# Altium integrated library Analog Devices Data Converters Analog-to-Digital Converters.IntLib: 2404 symbols (part 206 of 346)
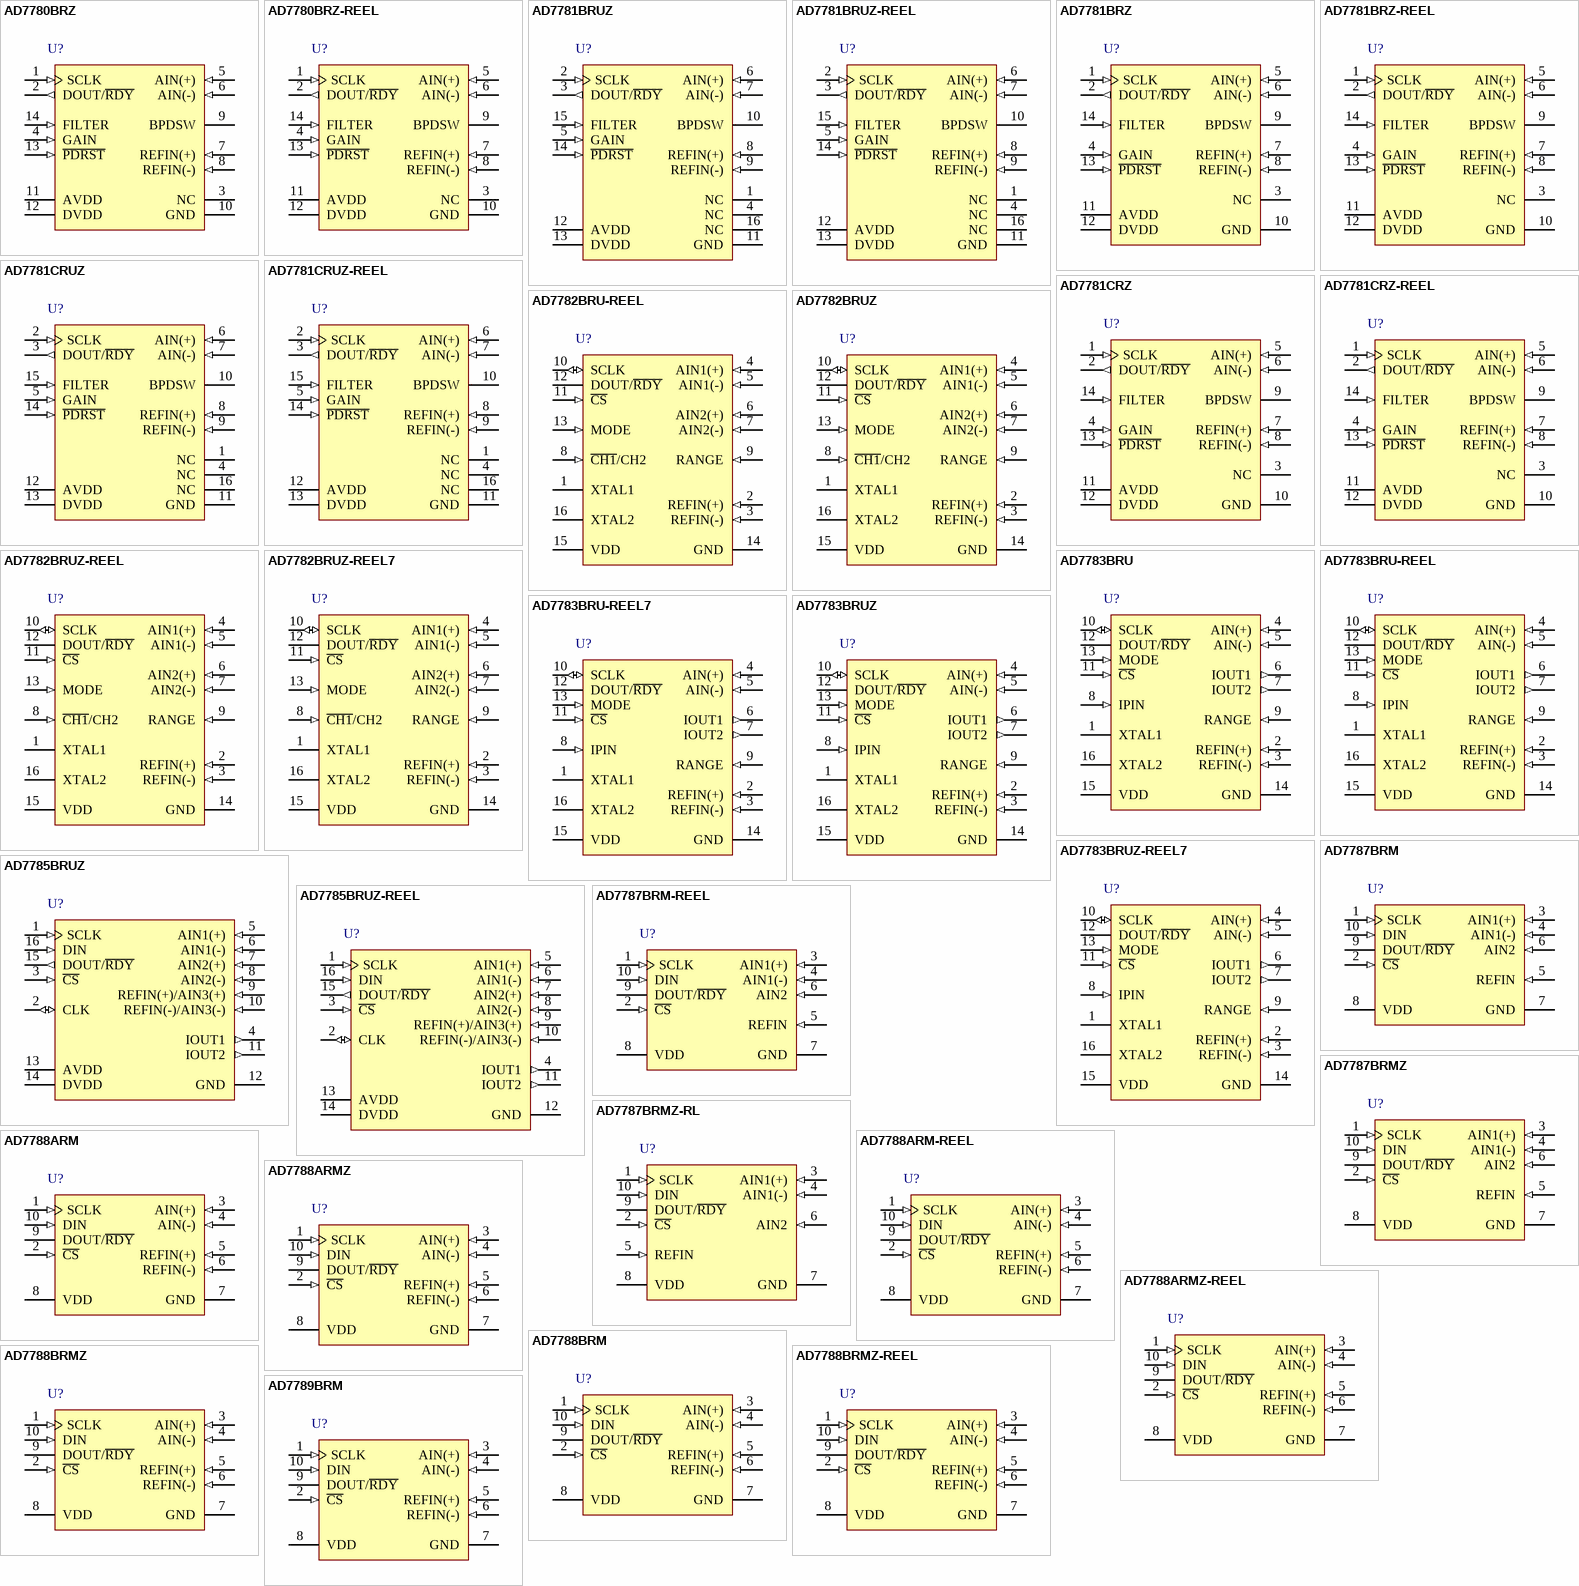
[diagram p266: symbols AD7780BRZ to AD7789BRM]

## AD7788ARMZ
designator U?
Single 16-Bit Low Power Sigma-Delta Analog-to-Digital Converter with Serial, SPI Interface, 16.6SPS, -40 to +85 degC, RM-10, Pb-Free, Tube; Generic Part Number: AD7788; Manufacturer: Analog Devices; PartNumber: AD7788ARMZ; Resolution (Bits): 16; Channels: 1; Throughput Rate (SPS): 16.6; Interface: Ser, SPI; DatasheetVersion: Rev.B; PackageVersion: May-2005; PackageReference: RM-10; PackageDescription: 10-Lead Mini Small Outline Package [MSOP]; Supplier 1: Digi-Key; Supplier Part Number 1: AD7788ARMZ-ND; Supplier 2: Newark; Supplier Part Number 2: 90W0416; Supplier 3: Newark; Supplier Part Number 3: 59K5448; Supplier 4: Mouser; Supplier Part Number 4: 584-AD7788ARMZ; RoHS: Y; Packing: Tube; Mounting Technology: Surface Mount; ComponentLink1Description: Manufacturer URL; ComponentLink1URL: http://www.analog.com/en/index.html; ComponentLink2Description: Datasheet; ComponentLink2URL: http://www.analog.com/static/imported-files/data_sheets/AD7788_7789.pdf; ComponentLink3Description: Package Specification; ComponentLink3URL: http://www.analog.com/static/imported-files/packages/PKG_PDF/MSOP%28RM%29/RM_10.pdf; ComponentLink4Description: Product URL; ComponentLink4URL: http://www.analog.com/en/analog-to-digital-converters/ad-converters/ad7788/products/product.html
footprint RM-10_N (TSSOP, 10-Leads, Body 3x3mm, Pitch 0.5mm, IPC Medium Density)
footprint RM-10_L (TSSOP, 10-Leads, Body 3x3mm, Pitch 0.5mm, IPC High Density)
footprint RM-10_M (TSSOP, 10-Leads, Body 3x3mm, Pitch 0.5mm, IPC Low Density)
pins: 1 SCLK (in) "Serial Clock Input for Data Transfers to and from the ADC. The SCLK has a Schmitt-triggered input, making the interface suitable for opto-isolated applications. The serial clock can be continuous, with all data transmitted (See Datasheet)", 2 ~{CS} (in) "Chip Select Input. This is an active low logic input used to select the ADC. C\S\can be used to select the ADC in systems with more than one device on the serial bus or as a frame synchronization signal in communicating with (See Datasheet)", 3 AIN(+) (in) "Analog Input. AIN(+) is the positive terminal of the fully differential analog input.", 4 AIN(-) (in) "Analog Input. AIN(-) is the negative terminal of the fully differential analog input.", 5 REFIN(+) (in) "Positive Reference Input. REFIN(+) can lie anywhere between VDD and GND + 0.1 V. The nominal reference voltage (REFIN(+) - REFIN(-)) is 2.5 V, but the part functions with a reference from 0.1 V to VDD.", 6 REFIN(-) (in) "Negative Reference Input. This reference input can lie anywhere between GND and VDD - 0.1 V.", 7 GND (power) "Ground Reference Point.", 8 VDD (power) "Supply Voltage. 3 V or 5 V nominal.", 9 DOUT/~{RDY} (hiz) "The DOUT/R\D\Y\ falling edge can be used as an interrupt to a processor, indicating that valid data is available. With an external serial clock, the data can be read using the DOUT/R\D\Y\ pin. With C\S\ low, the data/control (See Datasheet)", 10 DIN (in) "Serial Data Input to the Input Shift Register on the ADC. Data in this shift register is transferred to the control registers within the ADC; the register selection bits of the communications register identify the (See Datasheet)"

## AD7788ARMZ-REEL
designator U?
Single 16-Bit Low Power Sigma-Delta Analog-to-Digital Converter with Serial, SPI Interface, 16.6SPS, -40 to +85 degC, RM-10, Pb-Free, Reel; Generic Part Number: AD7788; Manufacturer: Analog Devices; PartNumber: AD7788ARMZ-REEL; Resolution (Bits): 16; Channels: 1; Throughput Rate (SPS): 16.6; Interface: Ser, SPI; DatasheetVersion: Rev.B; PackageVersion: May-2005; PackageReference: RM-10; PackageDescription: 10-Lead Mini Small Outline Package [MSOP]; Supplier 1: Digi-Key; Supplier Part Number 1: AD7788ARMZ-REELTR-ND; Supplier 2: Digi-Key; Supplier Part Number 2: AD7788ARMZ-REELCT-ND; Supplier 3: Digi-Key; Supplier Part Number 3: AD7788ARMZ-REELDKR-ND; Supplier 4: Mouser; Supplier Part Number 4: 584-AD7788ARMZ-R; RoHS: Y; Packing: Reel; Mounting Technology: Surface Mount; ComponentLink1Description: Manufacturer URL; ComponentLink1URL: http://www.analog.com/en/index.html; ComponentLink2Description: Datasheet; ComponentLink2URL: http://www.analog.com/static/imported-files/data_sheets/AD7788_7789.pdf; ComponentLink3Description: Package Specification; ComponentLink3URL: http://www.analog.com/static/imported-files/packages/PKG_PDF/MSOP%28RM%29/RM_10.pdf; ComponentLink4Description: Product URL; ComponentLink4URL: http://www.analog.com/en/analog-to-digital-converters/ad-converters/ad7788/products/product.html
footprint RM-10_N (TSSOP, 10-Leads, Body 3x3mm, Pitch 0.5mm, IPC Medium Density)
footprint RM-10_L (TSSOP, 10-Leads, Body 3x3mm, Pitch 0.5mm, IPC High Density)
footprint RM-10_M (TSSOP, 10-Leads, Body 3x3mm, Pitch 0.5mm, IPC Low Density)
pins: 1 SCLK (in) "Serial Clock Input for Data Transfers to and from the ADC. The SCLK has a Schmitt-triggered input, making the interface suitable for opto-isolated applications. The serial clock can be continuous, with all data transmitted (See Datasheet)", 2 ~{CS} (in) "Chip Select Input. This is an active low logic input used to select the ADC. C\S\can be used to select the ADC in systems with more than one device on the serial bus or as a frame synchronization signal in communicating with (See Datasheet)", 3 AIN(+) (in) "Analog Input. AIN(+) is the positive terminal of the fully differential analog input.", 4 AIN(-) (in) "Analog Input. AIN(-) is the negative terminal of the fully differential analog input.", 5 REFIN(+) (in) "Positive Reference Input. REFIN(+) can lie anywhere between VDD and GND + 0.1 V. The nominal reference voltage (REFIN(+) - REFIN(-)) is 2.5 V, but the part functions with a reference from 0.1 V to VDD.", 6 REFIN(-) (in) "Negative Reference Input. This reference input can lie anywhere between GND and VDD - 0.1 V.", 7 GND (power) "Ground Reference Point.", 8 VDD (power) "Supply Voltage. 3 V or 5 V nominal.", 9 DOUT/~{RDY} (hiz) "The DOUT/R\D\Y\ falling edge can be used as an interrupt to a processor, indicating that valid data is available. With an external serial clock, the data can be read using the DOUT/R\D\Y\ pin. With C\S\ low, the data/control (See Datasheet)", 10 DIN (in) "Serial Data Input to the Input Shift Register on the ADC. Data in this shift register is transferred to the control registers within the ADC; the register selection bits of the communications register identify the (See Datasheet)"

## AD7788BRM
designator U?
Single 16-Bit Low Power Sigma-Delta Analog-to-Digital Converter with Serial, SPI Interface, 16.6SPS, -40 to +105 degC, RM-10, Tube; Generic Part Number: AD7788; Manufacturer: Analog Devices; PartNumber: AD7788BRM; Resolution (Bits): 16; Channels: 1; Throughput Rate (SPS): 16.6; Interface: Ser, SPI; DatasheetVersion: Rev.B; PackageVersion: May-2005; PackageReference: RM-10; PackageDescription: 10-Lead Mini Small Outline Package [MSOP]; Supplier 1: Digi-Key; Supplier Part Number 1: AD7788BRM-ND; Supplier 2: Mouser; Supplier Part Number 2: 584-AD7788BRM; RoHS: N; Packing: Tube; Mounting Technology: Surface Mount; ComponentLink1Description: Manufacturer URL; ComponentLink1URL: http://www.analog.com/en/index.html; ComponentLink2Description: Datasheet; ComponentLink2URL: http://www.analog.com/static/imported-files/data_sheets/AD7788_7789.pdf; ComponentLink3Description: Package Specification; ComponentLink3URL: http://www.analog.com/static/imported-files/packages/PKG_PDF/MSOP%28RM%29/RM_10.pdf; ComponentLink4Description: Product URL; ComponentLink4URL: http://www.analog.com/en/analog-to-digital-converters/ad-converters/ad7788/products/product.html
footprint RM-10_N (TSSOP, 10-Leads, Body 3x3mm, Pitch 0.5mm, IPC Medium Density)
footprint RM-10_L (TSSOP, 10-Leads, Body 3x3mm, Pitch 0.5mm, IPC High Density)
footprint RM-10_M (TSSOP, 10-Leads, Body 3x3mm, Pitch 0.5mm, IPC Low Density)
pins: 1 SCLK (in) "Serial Clock Input for Data Transfers to and from the ADC. The SCLK has a Schmitt-triggered input, making the interface suitable for opto-isolated applications. The serial clock can be continuous, with all data transmitted (See Datasheet)", 2 ~{CS} (in) "Chip Select Input. This is an active low logic input used to select the ADC. C\S\can be used to select the ADC in systems with more than one device on the serial bus or as a frame synchronization signal in communicating with (See Datasheet)", 3 AIN(+) (in) "Analog Input. AIN(+) is the positive terminal of the fully differential analog input.", 4 AIN(-) (in) "Analog Input. AIN(-) is the negative terminal of the fully differential analog input.", 5 REFIN(+) (in) "Positive Reference Input. REFIN(+) can lie anywhere between VDD and GND + 0.1 V. The nominal reference voltage (REFIN(+) - REFIN(-)) is 2.5 V, but the part functions with a reference from 0.1 V to VDD.", 6 REFIN(-) (in) "Negative Reference Input. This reference input can lie anywhere between GND and VDD - 0.1 V.", 7 GND (power) "Ground Reference Point.", 8 VDD (power) "Supply Voltage. 3 V or 5 V nominal.", 9 DOUT/~{RDY} (hiz) "The DOUT/R\D\Y\ falling edge can be used as an interrupt to a processor, indicating that valid data is available. With an external serial clock, the data can be read using the DOUT/R\D\Y\ pin. With C\S\ low, the data/control (See Datasheet)", 10 DIN (in) "Serial Data Input to the Input Shift Register on the ADC. Data in this shift register is transferred to the control registers within the ADC; the register selection bits of the communications register identify the (See Datasheet)"

## AD7788BRMZ
designator U?
Single 16-Bit Low Power Sigma-Delta Analog-to-Digital Converter with Serial, SPI Interface, 16.6SPS, -40 to +105 degC, RM-10, Pb-Free, Tube; Generic Part Number: AD7788; Manufacturer: Analog Devices; PartNumber: AD7788BRMZ; Resolution (Bits): 16; Channels: 1; Throughput Rate (SPS): 16.6; Interface: Ser, SPI; DatasheetVersion: Rev.B; PackageVersion: May-2005; PackageReference: RM-10; PackageDescription: 10-Lead Mini Small Outline Package [MSOP]; Supplier 1: Digi-Key; Supplier Part Number 1: AD7788BRMZ-ND; Supplier 2: Farnell; Supplier Part Number 2: 1581941; Supplier 3: Newark; Supplier Part Number 3: 59K5449; Supplier 4: Mouser; Supplier Part Number 4: 584-AD7788BRMZ; RoHS: Y; Packing: Tube; Mounting Technology: Surface Mount; ComponentLink1Description: Manufacturer URL; ComponentLink1URL: http://www.analog.com/en/index.html; ComponentLink2Description: Datasheet; ComponentLink2URL: http://www.analog.com/static/imported-files/data_sheets/AD7788_7789.pdf; ComponentLink3Description: Package Specification; ComponentLink3URL: http://www.analog.com/static/imported-files/packages/PKG_PDF/MSOP%28RM%29/RM_10.pdf; ComponentLink4Description: Product URL; ComponentLink4URL: http://www.analog.com/en/analog-to-digital-converters/ad-converters/ad7788/products/product.html
footprint RM-10_N (TSSOP, 10-Leads, Body 3x3mm, Pitch 0.5mm, IPC Medium Density)
footprint RM-10_L (TSSOP, 10-Leads, Body 3x3mm, Pitch 0.5mm, IPC High Density)
footprint RM-10_M (TSSOP, 10-Leads, Body 3x3mm, Pitch 0.5mm, IPC Low Density)
pins: 1 SCLK (in) "Serial Clock Input for Data Transfers to and from the ADC. The SCLK has a Schmitt-triggered input, making the interface suitable for opto-isolated applications. The serial clock can be continuous, with all data transmitted (See Datasheet)", 2 ~{CS} (in) "Chip Select Input. This is an active low logic input used to select the ADC. C\S\can be used to select the ADC in systems with more than one device on the serial bus or as a frame synchronization signal in communicating with (See Datasheet)", 3 AIN(+) (in) "Analog Input. AIN(+) is the positive terminal of the fully differential analog input.", 4 AIN(-) (in) "Analog Input. AIN(-) is the negative terminal of the fully differential analog input.", 5 REFIN(+) (in) "Positive Reference Input. REFIN(+) can lie anywhere between VDD and GND + 0.1 V. The nominal reference voltage (REFIN(+) - REFIN(-)) is 2.5 V, but the part functions with a reference from 0.1 V to VDD.", 6 REFIN(-) (in) "Negative Reference Input. This reference input can lie anywhere between GND and VDD - 0.1 V.", 7 GND (power) "Ground Reference Point.", 8 VDD (power) "Supply Voltage. 3 V or 5 V nominal.", 9 DOUT/~{RDY} (hiz) "The DOUT/R\D\Y\ falling edge can be used as an interrupt to a processor, indicating that valid data is available. With an external serial clock, the data can be read using the DOUT/R\D\Y\ pin. With C\S\ low, the data/control (See Datasheet)", 10 DIN (in) "Serial Data Input to the Input Shift Register on the ADC. Data in this shift register is transferred to the control registers within the ADC; the register selection bits of the communications register identify the (See Datasheet)"

## AD7788BRMZ-REEL
designator U?
Single 16-Bit Low Power Sigma-Delta Analog-to-Digital Converter with Serial, SPI Interface, 16.6SPS, -40 to +105 degC, RM-10, Pb-Free, Reel; Generic Part Number: AD7788; Manufacturer: Analog Devices; PartNumber: AD7788BRMZ-REEL; Resolution (Bits): 16; Channels: 1; Throughput Rate (SPS): 16.6; Interface: Ser, SPI; DatasheetVersion: Rev.B; PackageVersion: May-2005; PackageReference: RM-10; PackageDescription: 10-Lead Mini Small Outline Package [MSOP]; Supplier 1: Digi-Key; Supplier Part Number 1: AD7788BRMZ-REEL-ND; Supplier 2: Newark; Supplier Part Number 2: 59K5450; Supplier 3: Mouser; Supplier Part Number 3: 584-AD7788BRMZ-R; RoHS: Y; Packing: Reel; Mounting Technology: Surface Mount; ComponentLink1Description: Manufacturer URL; ComponentLink1URL: http://www.analog.com/en/index.html; ComponentLink2Description: Datasheet; ComponentLink2URL: http://www.analog.com/static/imported-files/data_sheets/AD7788_7789.pdf; ComponentLink3Description: Package Specification; ComponentLink3URL: http://www.analog.com/static/imported-files/packages/PKG_PDF/MSOP%28RM%29/RM_10.pdf; ComponentLink4Description: Product URL; ComponentLink4URL: http://www.analog.com/en/analog-to-digital-converters/ad-converters/ad7788/products/product.html
footprint RM-10_N (TSSOP, 10-Leads, Body 3x3mm, Pitch 0.5mm, IPC Medium Density)
footprint RM-10_L (TSSOP, 10-Leads, Body 3x3mm, Pitch 0.5mm, IPC High Density)
footprint RM-10_M (TSSOP, 10-Leads, Body 3x3mm, Pitch 0.5mm, IPC Low Density)
pins: 1 SCLK (in) "Serial Clock Input for Data Transfers to and from the ADC. The SCLK has a Schmitt-triggered input, making the interface suitable for opto-isolated applications. The serial clock can be continuous, with all data transmitted (See Datasheet)", 2 ~{CS} (in) "Chip Select Input. This is an active low logic input used to select the ADC. C\S\can be used to select the ADC in systems with more than one device on the serial bus or as a frame synchronization signal in communicating with (See Datasheet)", 3 AIN(+) (in) "Analog Input. AIN(+) is the positive terminal of the fully differential analog input.", 4 AIN(-) (in) "Analog Input. AIN(-) is the negative terminal of the fully differential analog input.", 5 REFIN(+) (in) "Positive Reference Input. REFIN(+) can lie anywhere between VDD and GND + 0.1 V. The nominal reference voltage (REFIN(+) - REFIN(-)) is 2.5 V, but the part functions with a reference from 0.1 V to VDD.", 6 REFIN(-) (in) "Negative Reference Input. This reference input can lie anywhere between GND and VDD - 0.1 V.", 7 GND (power) "Ground Reference Point.", 8 VDD (power) "Supply Voltage. 3 V or 5 V nominal.", 9 DOUT/~{RDY} (hiz) "The DOUT/R\D\Y\ falling edge can be used as an interrupt to a processor, indicating that valid data is available. With an external serial clock, the data can be read using the DOUT/R\D\Y\ pin. With C\S\ low, the data/control (See Datasheet)", 10 DIN (in) "Serial Data Input to the Input Shift Register on the ADC. Data in this shift register is transferred to the control registers within the ADC; the register selection bits of the communications register identify the (See Datasheet)"

## AD7789BRM
designator U?
Single 24-Bit Low Power Sigma-Delta Analog-to-Digital Converter with Serial, SPI Interface, 16.6SPS, -40 to +105 degC, RM-10, Tube; Generic Part Number: AD7789; Manufacturer: Analog Devices; PartNumber: AD7789BRM; Resolution (Bits): 24; Channels: 1; Throughput Rate (SPS): 16.6; Interface: Ser, SPI; DatasheetVersion: Rev.B; PackageVersion: May-2005; PackageReference: RM-10; PackageDescription: 10-Lead Mini Small Outline Package [MSOP]; Supplier 1: Digi-Key; Supplier Part Number 1: AD7789BRM-ND; Supplier 2: Mouser; Supplier Part Number 2: 584-AD7789BRM; RoHS: N; Packing: Tube; Mounting Technology: Surface Mount; ComponentLink1Description: Manufacturer URL; ComponentLink1URL: http://www.analog.com/en/index.html; ComponentLink2Description: Datasheet; ComponentLink2URL: http://www.analog.com/static/imported-files/data_sheets/AD7788_7789.pdf; ComponentLink3Description: Package Specification; ComponentLink3URL: http://www.analog.com/static/imported-files/packages/PKG_PDF/MSOP%28RM%29/RM_10.pdf; ComponentLink4Description: Product URL; ComponentLink4URL: http://www.analog.com/en/analog-to-digital-converters/ad-converters/ad7789/products/product.html
footprint RM-10_N (TSSOP, 10-Leads, Body 3x3mm, Pitch 0.5mm, IPC Medium Density)
footprint RM-10_L (TSSOP, 10-Leads, Body 3x3mm, Pitch 0.5mm, IPC High Density)
footprint RM-10_M (TSSOP, 10-Leads, Body 3x3mm, Pitch 0.5mm, IPC Low Density)
pins: 1 SCLK (in) "Serial Clock Input for Data Transfers to and from the ADC. The SCLK has a Schmitt-triggered input, making the interface suitable for opto-isolated applications. The serial clock can be continuous, with all data transmitted (See Datasheet)", 2 ~{CS} (in) "Chip Select Input. This is an active low logic input used to select the ADC. C\S\ can be used to select the ADC in systems with more than one device on the serial bus or as a frame synchronization signal in communicating (See Datasheet)", 3 AIN(+) (in) "Analog Input. AIN(+) is the positive terminal of the fully differential analog input.", 4 AIN(-) (in) "Analog Input. AIN(-) is the negative terminal of the fully differential analog input.", 5 REFIN(+) (in) "Positive Reference Input. REFIN(+) can lie anywhere between VDD and GND + 0.1 V. The nominal reference voltage (REFIN(+) - REFIN(-)) is 2.5 V, but the part functions with a reference from 0.1 V to VDD.", 6 REFIN(-) (in) "Negative Reference Input. This reference input can lie anywhere between GND and VDD - 0.1 V.", 7 GND (power) "Ground Reference Point.", 8 VDD (power) "Supply Voltage. 3 V or 5 V nominal.", 9 DOUT/~{RDY} (hiz) "The DOUT/R\D\Y\ falling edge can be used as an interrupt to a processor, indicating that valid data is available. With an external serial clock, the data can be read using the DOUT/R\D\Y\ pin. With C\S\ low, the data/control (See Datasheet)", 10 DIN (in) "Serial Data Input to the Input Shift Register on the ADC. Data in this shift register is transferred to the control registers within the ADC; the register selection bits of the communications register identify the (See Datasheet)"

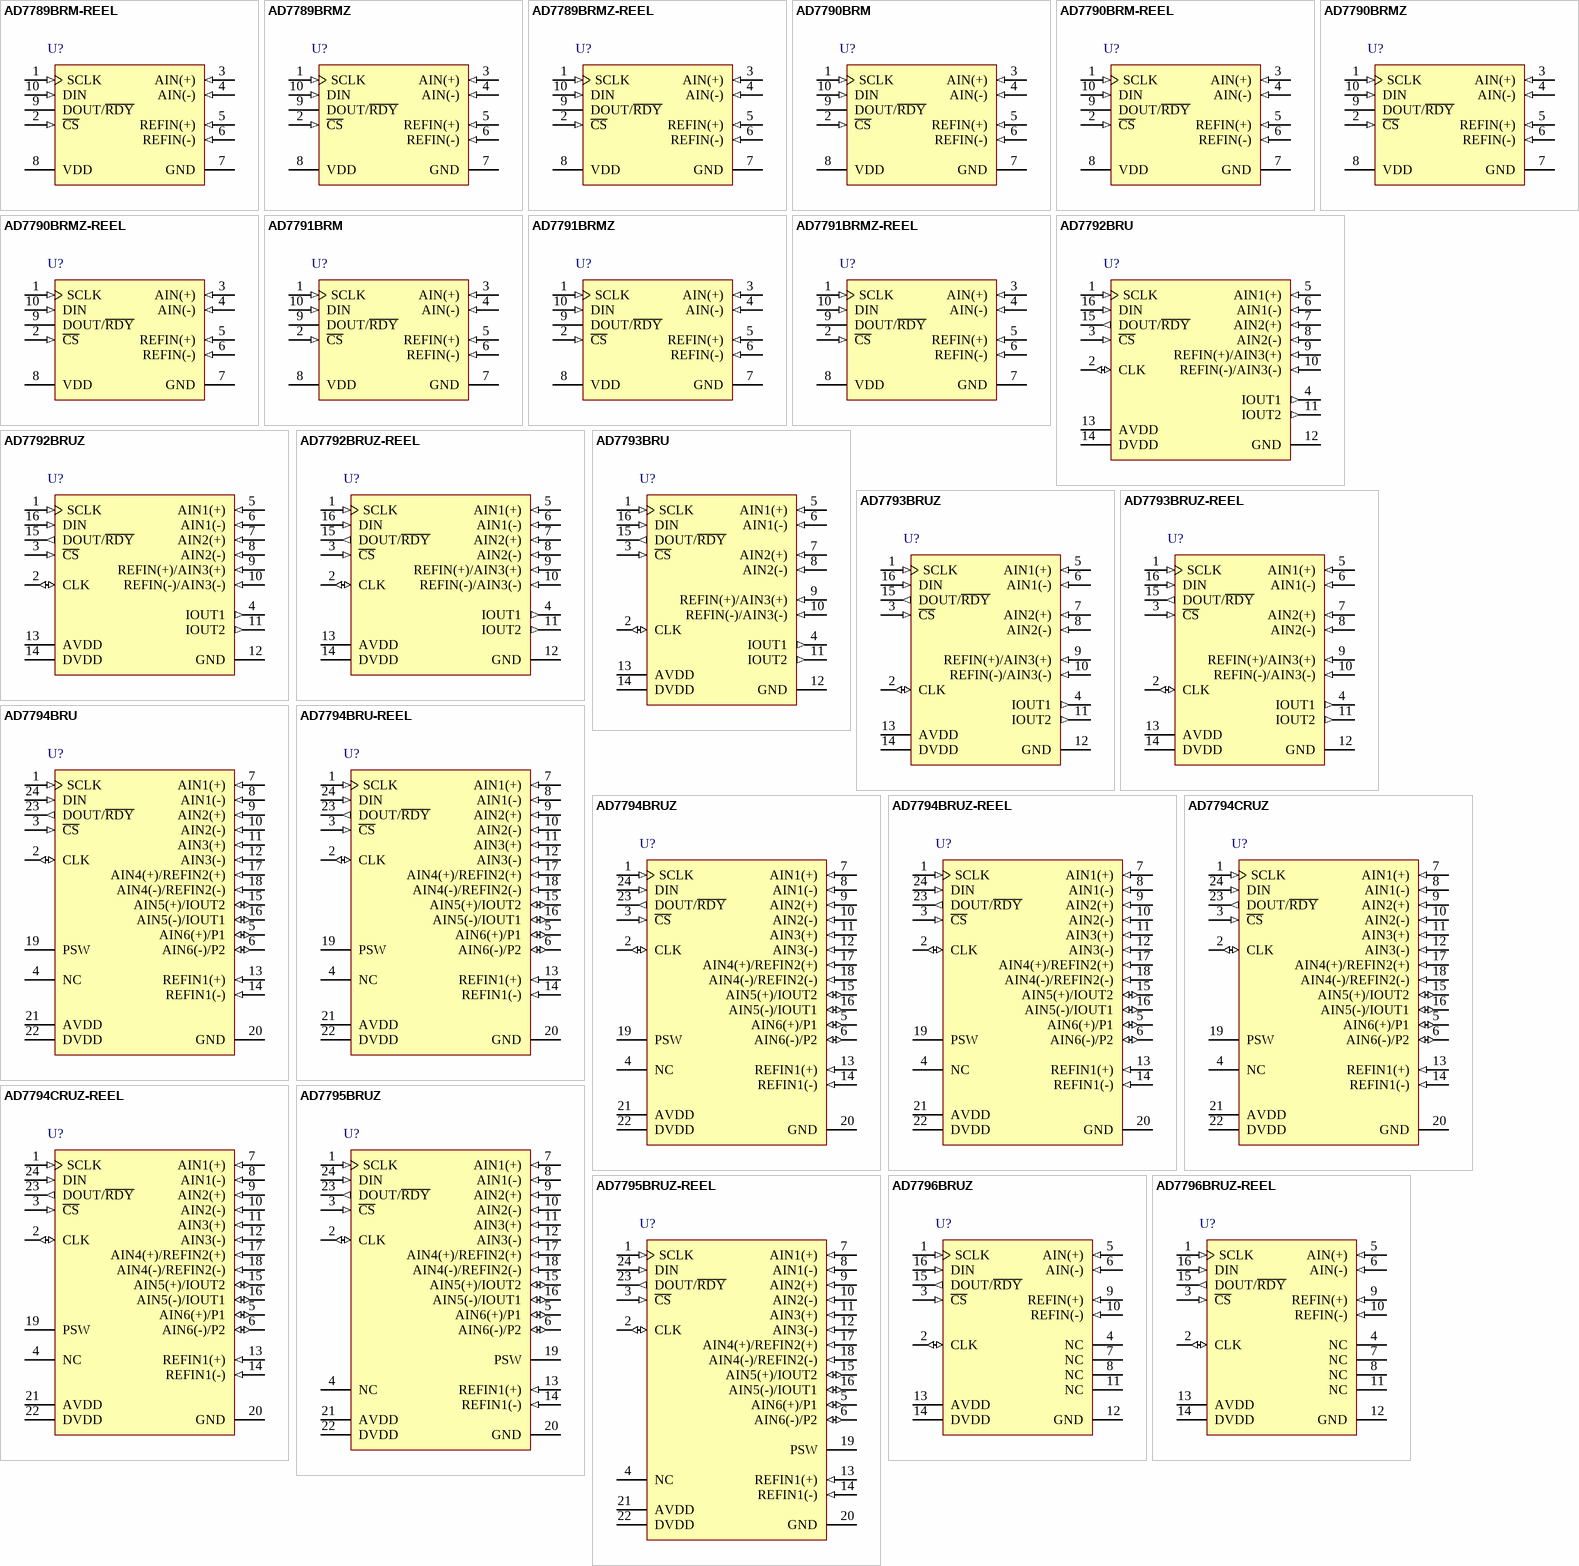
[diagram p62: symbols AD7789BRM-REEL to AD7796BRUZ-REEL]

## AD7789BRM-REEL
designator U?
Single 24-Bit Low Power Sigma-Delta Analog-to-Digital Converter with Serial, SPI Interface, 16.6SPS, -40 to +105 degC, RM-10, Reel; Generic Part Number: AD7789; Manufacturer: Analog Devices; PartNumber: AD7789BRM-REEL; Resolution (Bits): 24; Channels: 1; Throughput Rate (SPS): 16.6; Interface: Ser, SPI; DatasheetVersion: Rev.B; PackageVersion: May-2005; PackageReference: RM-10; PackageDescription: 10-Lead Mini Small Outline Package [MSOP]; Supplier 1: Digi-Key; Supplier Part Number 1: AD7789BRM-REEL-ND; Supplier 2: Newark; Supplier Part Number 2: 82H2934; Supplier 3: Mouser; Supplier Part Number 3: 584-AD7789BRM-R; RoHS: N; Packing: Reel; Mounting Technology: Surface Mount; ComponentLink1Description: Manufacturer URL; ComponentLink1URL: http://www.analog.com/en/index.html; ComponentLink2Description: Datasheet; ComponentLink2URL: http://www.analog.com/static/imported-files/data_sheets/AD7788_7789.pdf; ComponentLink3Description: Package Specification; ComponentLink3URL: http://www.analog.com/static/imported-files/packages/PKG_PDF/MSOP%28RM%29/RM_10.pdf; ComponentLink4Description: Product URL; ComponentLink4URL: http://www.analog.com/en/analog-to-digital-converters/ad-converters/ad7789/products/product.html
footprint RM-10_N (TSSOP, 10-Leads, Body 3x3mm, Pitch 0.5mm, IPC Medium Density)
footprint RM-10_L (TSSOP, 10-Leads, Body 3x3mm, Pitch 0.5mm, IPC High Density)
footprint RM-10_M (TSSOP, 10-Leads, Body 3x3mm, Pitch 0.5mm, IPC Low Density)
pins: 1 SCLK (in) "Serial Clock Input for Data Transfers to and from the ADC. The SCLK has a Schmitt-triggered input, making the interface suitable for opto-isolated applications. The serial clock can be continuous, with all data transmitted (See Datasheet)", 2 ~{CS} (in) "Chip Select Input. This is an active low logic input used to select the ADC. C\S\ can be used to select the ADC in systems with more than one device on the serial bus or as a frame synchronization signal in communicating (See Datasheet)", 3 AIN(+) (in) "Analog Input. AIN(+) is the positive terminal of the fully differential analog input.", 4 AIN(-) (in) "Analog Input. AIN(-) is the negative terminal of the fully differential analog input.", 5 REFIN(+) (in) "Positive Reference Input. REFIN(+) can lie anywhere between VDD and GND + 0.1 V. The nominal reference voltage (REFIN(+) - REFIN(-)) is 2.5 V, but the part functions with a reference from 0.1 V to VDD.", 6 REFIN(-) (in) "Negative Reference Input. This reference input can lie anywhere between GND and VDD - 0.1 V.", 7 GND (power) "Ground Reference Point.", 8 VDD (power) "Supply Voltage. 3 V or 5 V nominal.", 9 DOUT/~{RDY} (hiz) "The DOUT/R\D\Y\ falling edge can be used as an interrupt to a processor, indicating that valid data is available. With an external serial clock, the data can be read using the DOUT/R\D\Y\ pin. With C\S\ low, the data/control (See Datasheet)", 10 DIN (in) "Serial Data Input to the Input Shift Register on the ADC. Data in this shift register is transferred to the control registers within the ADC; the register selection bits of the communications register identify the (See Datasheet)"

## AD7789BRMZ
designator U?
Single 24-Bit Low Power Sigma-Delta Analog-to-Digital Converter with Serial, SPI Interface, 16.6SPS, -40 to +105 degC, RM-10, Pb-Free, Tube; Generic Part Number: AD7789; Manufacturer: Analog Devices; PartNumber: AD7789BRMZ; Resolution (Bits): 24; Channels: 1; Throughput Rate (SPS): 16.6; Interface: Ser, SPI; DatasheetVersion: Rev.B; PackageVersion: May-2005; PackageReference: RM-10; PackageDescription: 10-Lead Mini Small Outline Package [MSOP]; Supplier 1: Digi-Key; Supplier Part Number 1: AD7789BRMZ-ND; Supplier 2: Farnell; Supplier Part Number 2: 1143278; Supplier 3: Newark; Supplier Part Number 3: 59K5451; Supplier 4: Mouser; Supplier Part Number 4: 584-AD7789BRMZ; RoHS: Y; Packing: Tube; Mounting Technology: Surface Mount; ComponentLink1Description: Manufacturer URL; ComponentLink1URL: http://www.analog.com/en/index.html; ComponentLink2Description: Datasheet; ComponentLink2URL: http://www.analog.com/static/imported-files/data_sheets/AD7788_7789.pdf; ComponentLink3Description: Package Specification; ComponentLink3URL: http://www.analog.com/static/imported-files/packages/PKG_PDF/MSOP%28RM%29/RM_10.pdf; ComponentLink4Description: Product URL; ComponentLink4URL: http://www.analog.com/en/analog-to-digital-converters/ad-converters/ad7789/products/product.html
footprint RM-10_N (TSSOP, 10-Leads, Body 3x3mm, Pitch 0.5mm, IPC Medium Density)
footprint RM-10_L (TSSOP, 10-Leads, Body 3x3mm, Pitch 0.5mm, IPC High Density)
footprint RM-10_M (TSSOP, 10-Leads, Body 3x3mm, Pitch 0.5mm, IPC Low Density)
pins: 1 SCLK (in) "Serial Clock Input for Data Transfers to and from the ADC. The SCLK has a Schmitt-triggered input, making the interface suitable for opto-isolated applications. The serial clock can be continuous, with all data transmitted (See Datasheet)", 2 ~{CS} (in) "Chip Select Input. This is an active low logic input used to select the ADC. C\S\ can be used to select the ADC in systems with more than one device on the serial bus or as a frame synchronization signal in communicating (See Datasheet)", 3 AIN(+) (in) "Analog Input. AIN(+) is the positive terminal of the fully differential analog input.", 4 AIN(-) (in) "Analog Input. AIN(-) is the negative terminal of the fully differential analog input.", 5 REFIN(+) (in) "Positive Reference Input. REFIN(+) can lie anywhere between VDD and GND + 0.1 V. The nominal reference voltage (REFIN(+) - REFIN(-)) is 2.5 V, but the part functions with a reference from 0.1 V to VDD.", 6 REFIN(-) (in) "Negative Reference Input. This reference input can lie anywhere between GND and VDD - 0.1 V.", 7 GND (power) "Ground Reference Point.", 8 VDD (power) "Supply Voltage. 3 V or 5 V nominal.", 9 DOUT/~{RDY} (hiz) "The DOUT/R\D\Y\ falling edge can be used as an interrupt to a processor, indicating that valid data is available. With an external serial clock, the data can be read using the DOUT/R\D\Y\ pin. With C\S\ low, the data/control (See Datasheet)", 10 DIN (in) "Serial Data Input to the Input Shift Register on the ADC. Data in this shift register is transferred to the control registers within the ADC; the register selection bits of the communications register identify the (See Datasheet)"

## AD7789BRMZ-REEL
designator U?
Single 24-Bit Low Power Sigma-Delta Analog-to-Digital Converter with Serial, SPI Interface, 16.6SPS, -40 to +105 degC, RM-10, Pb-Free, Reel; Generic Part Number: AD7789; Manufacturer: Analog Devices; PartNumber: AD7789BRMZ-REEL; Resolution (Bits): 24; Channels: 1; Throughput Rate (SPS): 16.6; Interface: Ser, SPI; DatasheetVersion: Rev.B; PackageVersion: May-2005; PackageReference: RM-10; PackageDescription: 10-Lead Mini Small Outline Package [MSOP]; Supplier 1: Digi-Key; Supplier Part Number 1: AD7789BRMZ-REELTR-ND; Supplier 2: Digi-Key; Supplier Part Number 2: AD7789BRMZ-REELCT-ND; Supplier 3: Digi-Key; Supplier Part Number 3: AD7789BRMZ-REELDKR-ND; Supplier 4: Newark; Supplier Part Number 4: 59K5452; Supplier 5: Mouser; Supplier Part Number 5: 584-AD7789BRMZ-R; RoHS: Y; Packing: Reel; Mounting Technology: Surface Mount; ComponentLink1Description: Manufacturer URL; ComponentLink1URL: http://www.analog.com/en/index.html; ComponentLink2Description: Datasheet; ComponentLink2URL: http://www.analog.com/static/imported-files/data_sheets/AD7788_7789.pdf; ComponentLink3Description: Package Specification; ComponentLink3URL: http://www.analog.com/static/imported-files/packages/PKG_PDF/MSOP%28RM%29/RM_10.pdf; ComponentLink4Description: Product URL; ComponentLink4URL: http://www.analog.com/en/analog-to-digital-converters/ad-converters/ad7789/products/product.html
footprint RM-10_N (TSSOP, 10-Leads, Body 3x3mm, Pitch 0.5mm, IPC Medium Density)
footprint RM-10_L (TSSOP, 10-Leads, Body 3x3mm, Pitch 0.5mm, IPC High Density)
footprint RM-10_M (TSSOP, 10-Leads, Body 3x3mm, Pitch 0.5mm, IPC Low Density)
pins: 1 SCLK (in) "Serial Clock Input for Data Transfers to and from the ADC. The SCLK has a Schmitt-triggered input, making the interface suitable for opto-isolated applications. The serial clock can be continuous, with all data transmitted (See Datasheet)", 2 ~{CS} (in) "Chip Select Input. This is an active low logic input used to select the ADC. C\S\ can be used to select the ADC in systems with more than one device on the serial bus or as a frame synchronization signal in communicating (See Datasheet)", 3 AIN(+) (in) "Analog Input. AIN(+) is the positive terminal of the fully differential analog input.", 4 AIN(-) (in) "Analog Input. AIN(-) is the negative terminal of the fully differential analog input.", 5 REFIN(+) (in) "Positive Reference Input. REFIN(+) can lie anywhere between VDD and GND + 0.1 V. The nominal reference voltage (REFIN(+) - REFIN(-)) is 2.5 V, but the part functions with a reference from 0.1 V to VDD.", 6 REFIN(-) (in) "Negative Reference Input. This reference input can lie anywhere between GND and VDD - 0.1 V.", 7 GND (power) "Ground Reference Point.", 8 VDD (power) "Supply Voltage. 3 V or 5 V nominal.", 9 DOUT/~{RDY} (hiz) "The DOUT/R\D\Y\ falling edge can be used as an interrupt to a processor, indicating that valid data is available. With an external serial clock, the data can be read using the DOUT/R\D\Y\ pin. With C\S\ low, the data/control (See Datasheet)", 10 DIN (in) "Serial Data Input to the Input Shift Register on the ADC. Data in this shift register is transferred to the control registers within the ADC; the register selection bits of the communications register identify the (See Datasheet)"

## AD7790BRM
designator U?
Single 16-Bit Low Power Sigma-Delta Analog-to-Digital Converter with Serial, SPI Interface, 120SPS, -40 to +105 degC, RM-10, Tube; Generic Part Number: AD7790; Manufacturer: Analog Devices; PartNumber: AD7790BRM; Resolution (Bits): 16; Channels: 1; Throughput Rate (SPS): 120; Interface: Ser, SPI; DatasheetVersion: Rev.0; PackageVersion: May-2005; PackageReference: RM-10; PackageDescription: 10-Lead Mini Small Outline Package [MSOP]; Supplier 1: Digi-Key; Supplier Part Number 1: AD7790BRM-ND; Supplier 2: Mouser; Supplier Part Number 2: 584-AD7790BRM; RoHS: N; Packing: Tube; Mounting Technology: Surface Mount; ComponentLink1Description: Manufacturer URL; ComponentLink1URL: http://www.analog.com/en/index.html; ComponentLink2Description: Datasheet; ComponentLink2URL: http://www.analog.com/static/imported-files/data_sheets/AD7790.pdf; ComponentLink3Description: Package Specification; ComponentLink3URL: http://www.analog.com/static/imported-files/packages/PKG_PDF/MSOP%28RM%29/RM_10.pdf; ComponentLink4Description: Product URL; ComponentLink4URL: http://www.analog.com/en/analog-to-digital-converters/ad-converters/ad7790/products/product.html
footprint RM-10_N (TSSOP, 10-Leads, Body 3x3mm, Pitch 0.5mm, IPC Medium Density)
footprint RM-10_L (TSSOP, 10-Leads, Body 3x3mm, Pitch 0.5mm, IPC High Density)
footprint RM-10_M (TSSOP, 10-Leads, Body 3x3mm, Pitch 0.5mm, IPC Low Density)
pins: 1 SCLK (in) "Serial Clock Input for Data Transfers to and from the ADC. The SCLK has a Schmitttriggered input, making the interface suitable for opto-isolated applications. The serial clock can be continuous with all data transmitted in (See Datasheet)", 2 ~{CS} (in) "Chip Select Input. This is an active low logic input used to select the ADC. CS can be used to select the ADC in systems with more than one device on the serial bus or as a frame synchronization signal in communicating with (See Datasheet)", 3 AIN(+) (in) "Analog Input. AIN(+) is the positive terminal of the fully differential analog input.", 4 AIN(-) (in) "Analog Input. AIN(-) is the negative terminal of the fully differential analog input.", 5 REFIN(+) (in) "Positive Reference Input. REFIN(+) can lie anywhere between VDD and GND + 0.1 V. The nominal reference voltage (REFIN(+) --REFIN(-)) is 2.5 V, but the part functions with a reference from 0.1 V to VDD.", 6 REFIN(-) (in) "Negative Reference Input. This reference input can lie anywhere between GND and VDD - 0.1 V.", 7 GND (power) "Ground Reference Point.", 8 VDD (power) "Supply Voltage, 2.5 V to 5.25 V.", 9 DOUT/~{RDY} (hiz) "Serial Data Output/Data Ready Output. DOUT/R\D\Y\ serves a dual purpose . It functions as a serial data output pin to access the output shift register of the ADC. The output shift register can contain data from any of the (See Datasheet)", 10 DIN (in) "Serial Data Input to the Input Shift Register on the ADC. Data in this shift register is transferred to the control registers within the ADC, the register selection bits of the communications register identifying the (See Datasheet)"

## AD7790BRM-REEL
designator U?
Single 16-Bit Low Power Sigma-Delta Analog-to-Digital Converter with Serial, SPI Interface, 120SPS, -40 to +105 degC, RM-10, Reel; Generic Part Number: AD7790; Manufacturer: Analog Devices; PartNumber: AD7790BRM-REEL; Resolution (Bits): 16; Channels: 1; Throughput Rate (SPS): 120; Interface: Ser, SPI; DatasheetVersion: Rev.0; PackageVersion: May-2005; PackageReference: RM-10; PackageDescription: 10-Lead Mini Small Outline Package [MSOP]; Supplier 1: Mouser; Supplier Part Number 1: N/A; RoHS: N; Packing: Reel; Mounting Technology: Surface Mount; ComponentLink1Description: Manufacturer URL; ComponentLink1URL: http://www.analog.com/en/index.html; ComponentLink2Description: Datasheet; ComponentLink2URL: http://www.analog.com/static/imported-files/data_sheets/AD7790.pdf; ComponentLink3Description: Package Specification; ComponentLink3URL: http://www.analog.com/static/imported-files/packages/PKG_PDF/MSOP%28RM%29/RM_10.pdf; ComponentLink4Description: Product URL; ComponentLink4URL: http://www.analog.com/en/analog-to-digital-converters/ad-converters/ad7790/products/product.html
footprint RM-10_N (TSSOP, 10-Leads, Body 3x3mm, Pitch 0.5mm, IPC Medium Density)
footprint RM-10_L (TSSOP, 10-Leads, Body 3x3mm, Pitch 0.5mm, IPC High Density)
footprint RM-10_M (TSSOP, 10-Leads, Body 3x3mm, Pitch 0.5mm, IPC Low Density)
pins: 1 SCLK (in) "Serial Clock Input for Data Transfers to and from the ADC. The SCLK has a Schmitttriggered input, making the interface suitable for opto-isolated applications. The serial clock can be continuous with all data transmitted in (See Datasheet)", 2 ~{CS} (in) "Chip Select Input. This is an active low logic input used to select the ADC. CS can be used to select the ADC in systems with more than one device on the serial bus or as a frame synchronization signal in communicating with (See Datasheet)", 3 AIN(+) (in) "Analog Input. AIN(+) is the positive terminal of the fully differential analog input.", 4 AIN(-) (in) "Analog Input. AIN(-) is the negative terminal of the fully differential analog input.", 5 REFIN(+) (in) "Positive Reference Input. REFIN(+) can lie anywhere between VDD and GND + 0.1 V. The nominal reference voltage (REFIN(+) --REFIN(-)) is 2.5 V, but the part functions with a reference from 0.1 V to VDD.", 6 REFIN(-) (in) "Negative Reference Input. This reference input can lie anywhere between GND and VDD - 0.1 V.", 7 GND (power) "Ground Reference Point.", 8 VDD (power) "Supply Voltage, 2.5 V to 5.25 V.", 9 DOUT/~{RDY} (hiz) "Serial Data Output/Data Ready Output. DOUT/R\D\Y\ serves a dual purpose . It functions as a serial data output pin to access the output shift register of the ADC. The output shift register can contain data from any of the (See Datasheet)", 10 DIN (in) "Serial Data Input to the Input Shift Register on the ADC. Data in this shift register is transferred to the control registers within the ADC, the register selection bits of the communications register identifying the (See Datasheet)"

## AD7790BRMZ
designator U?
Single 16-Bit Low Power Sigma-Delta Analog-to-Digital Converter with Serial, SPI Interface, 120SPS, -40 to +105 degC, RM-10, Pb-Free, Tube; Generic Part Number: AD7790; Manufacturer: Analog Devices; PartNumber: AD7790BRMZ; Resolution (Bits): 16; Channels: 1; Throughput Rate (SPS): 120; Interface: Ser, SPI; DatasheetVersion: Rev.0; PackageVersion: May-2005; PackageReference: RM-10; PackageDescription: 10-Lead Mini Small Outline Package [MSOP]; Supplier 1: Digi-Key; Supplier Part Number 1: AD7790BRMZ-ND; Supplier 2: Farnell; Supplier Part Number 2: 1438545; Supplier 3: Newark; Supplier Part Number 3: 59K5456; Supplier 4: Mouser; Supplier Part Number 4: 584-AD7790BRMZ; RoHS: Y; Packing: Tube; Mounting Technology: Surface Mount; ComponentLink1Description: Manufacturer URL; ComponentLink1URL: http://www.analog.com/en/index.html; ComponentLink2Description: Datasheet; ComponentLink2URL: http://www.analog.com/static/imported-files/data_sheets/AD7790.pdf; ComponentLink3Description: Package Specification; ComponentLink3URL: http://www.analog.com/static/imported-files/packages/PKG_PDF/MSOP%28RM%29/RM_10.pdf; ComponentLink4Description: Product URL; ComponentLink4URL: http://www.analog.com/en/analog-to-digital-converters/ad-converters/ad7790/products/product.html
footprint RM-10_N (TSSOP, 10-Leads, Body 3x3mm, Pitch 0.5mm, IPC Medium Density)
footprint RM-10_L (TSSOP, 10-Leads, Body 3x3mm, Pitch 0.5mm, IPC High Density)
footprint RM-10_M (TSSOP, 10-Leads, Body 3x3mm, Pitch 0.5mm, IPC Low Density)
pins: 1 SCLK (in) "Serial Clock Input for Data Transfers to and from the ADC. The SCLK has a Schmitttriggered input, making the interface suitable for opto-isolated applications. The serial clock can be continuous with all data transmitted in (See Datasheet)", 2 ~{CS} (in) "Chip Select Input. This is an active low logic input used to select the ADC. CS can be used to select the ADC in systems with more than one device on the serial bus or as a frame synchronization signal in communicating with (See Datasheet)", 3 AIN(+) (in) "Analog Input. AIN(+) is the positive terminal of the fully differential analog input.", 4 AIN(-) (in) "Analog Input. AIN(-) is the negative terminal of the fully differential analog input.", 5 REFIN(+) (in) "Positive Reference Input. REFIN(+) can lie anywhere between VDD and GND + 0.1 V. The nominal reference voltage (REFIN(+) --REFIN(-)) is 2.5 V, but the part functions with a reference from 0.1 V to VDD.", 6 REFIN(-) (in) "Negative Reference Input. This reference input can lie anywhere between GND and VDD - 0.1 V.", 7 GND (power) "Ground Reference Point.", 8 VDD (power) "Supply Voltage, 2.5 V to 5.25 V.", 9 DOUT/~{RDY} (hiz) "Serial Data Output/Data Ready Output. DOUT/R\D\Y\ serves a dual purpose . It functions as a serial data output pin to access the output shift register of the ADC. The output shift register can contain data from any of the (See Datasheet)", 10 DIN (in) "Serial Data Input to the Input Shift Register on the ADC. Data in this shift register is transferred to the control registers within the ADC, the register selection bits of the communications register identifying the (See Datasheet)"

## AD7790BRMZ-REEL
designator U?
Single 16-Bit Low Power Sigma-Delta Analog-to-Digital Converter with Serial, SPI Interface, 120SPS, -40 to +105 degC, RM-10, Pb-Free, Reel; Generic Part Number: AD7790; Manufacturer: Analog Devices; PartNumber: AD7790BRMZ-REEL; Resolution (Bits): 16; Channels: 1; Throughput Rate (SPS): 120; Interface: Ser, SPI; DatasheetVersion: Rev.0; PackageVersion: May-2005; PackageReference: RM-10; PackageDescription: 10-Lead Mini Small Outline Package [MSOP]; Supplier 1: Digi-Key; Supplier Part Number 1: AD7790BRMZ-REELTR-ND; Supplier 2: Digi-Key; Supplier Part Number 2: AD7790BRMZ-REELCT-ND; Supplier 3: Digi-Key; Supplier Part Number 3: AD7790BRMZ-REELDKR-ND; Supplier 4: Newark; Supplier Part Number 4: 59K5457; Supplier 5: Mouser; Supplier Part Number 5: 584-AD7790BRMZ-R; RoHS: Y; Packing: Reel; Mounting Technology: Surface Mount; ComponentLink1Description: Manufacturer URL; ComponentLink1URL: http://www.analog.com/en/index.html; ComponentLink2Description: Datasheet; ComponentLink2URL: http://www.analog.com/static/imported-files/data_sheets/AD7790.pdf; ComponentLink3Description: Package Specification; ComponentLink3URL: http://www.analog.com/static/imported-files/packages/PKG_PDF/MSOP%28RM%29/RM_10.pdf; ComponentLink4Description: Product URL; ComponentLink4URL: http://www.analog.com/en/analog-to-digital-converters/ad-converters/ad7790/products/product.html
footprint RM-10_N (TSSOP, 10-Leads, Body 3x3mm, Pitch 0.5mm, IPC Medium Density)
footprint RM-10_L (TSSOP, 10-Leads, Body 3x3mm, Pitch 0.5mm, IPC High Density)
footprint RM-10_M (TSSOP, 10-Leads, Body 3x3mm, Pitch 0.5mm, IPC Low Density)
pins: 1 SCLK (in) "Serial Clock Input for Data Transfers to and from the ADC. The SCLK has a Schmitttriggered input, making the interface suitable for opto-isolated applications. The serial clock can be continuous with all data transmitted in (See Datasheet)", 2 ~{CS} (in) "Chip Select Input. This is an active low logic input used to select the ADC. CS can be used to select the ADC in systems with more than one device on the serial bus or as a frame synchronization signal in communicating with (See Datasheet)", 3 AIN(+) (in) "Analog Input. AIN(+) is the positive terminal of the fully differential analog input.", 4 AIN(-) (in) "Analog Input. AIN(-) is the negative terminal of the fully differential analog input.", 5 REFIN(+) (in) "Positive Reference Input. REFIN(+) can lie anywhere between VDD and GND + 0.1 V. The nominal reference voltage (REFIN(+) --REFIN(-)) is 2.5 V, but the part functions with a reference from 0.1 V to VDD.", 6 REFIN(-) (in) "Negative Reference Input. This reference input can lie anywhere between GND and VDD - 0.1 V.", 7 GND (power) "Ground Reference Point.", 8 VDD (power) "Supply Voltage, 2.5 V to 5.25 V.", 9 DOUT/~{RDY} (hiz) "Serial Data Output/Data Ready Output. DOUT/R\D\Y\ serves a dual purpose . It functions as a serial data output pin to access the output shift register of the ADC. The output shift register can contain data from any of the (See Datasheet)", 10 DIN (in) "Serial Data Input to the Input Shift Register on the ADC. Data in this shift register is transferred to the control registers within the ADC, the register selection bits of the communications register identifying the (See Datasheet)"

## AD7791BRM
designator U?
Single 24-Bit Low Power Sigma-Delta Analog-to-Digital Converter with Serial, SPI Interface, 120SPS, -40 to +105 degC, RM-10, Tube; Generic Part Number: AD7791; Manufacturer: Analog Devices; PartNumber: AD7791BRM; Resolution (Bits): 24; Channels: 1; Throughput Rate (SPS): 120; Interface: Ser, SPI; DatasheetVersion: Rev.0; PackageVersion: May-2005; PackageReference: RM-10; PackageDescription: 10-Lead Mini Small Outline Package [MSOP]; Supplier 1: Digi-Key; Supplier Part Number 1: AD7791BRM-ND; Supplier 2: Mouser; Supplier Part Number 2: 584-AD7791BRM; RoHS: N; Packing: Tube; Mounting Technology: Surface Mount; ComponentLink1Description: Manufacturer URL; ComponentLink1URL: http://www.analog.com/en/index.html; ComponentLink2Description: Datasheet; ComponentLink2URL: http://www.analog.com/static/imported-files/data_sheets/AD7791.pdf; ComponentLink3Description: Package Specification; ComponentLink3URL: http://www.analog.com/static/imported-files/packages/PKG_PDF/MSOP%28RM%29/RM_10.pdf; ComponentLink4Description: Product URL; ComponentLink4URL: http://www.analog.com/en/analog-to-digital-converters/ad-converters/ad7791/products/product.html
footprint RM-10_N (TSSOP, 10-Leads, Body 3x3mm, Pitch 0.5mm, IPC Medium Density)
footprint RM-10_L (TSSOP, 10-Leads, Body 3x3mm, Pitch 0.5mm, IPC High Density)
footprint RM-10_M (TSSOP, 10-Leads, Body 3x3mm, Pitch 0.5mm, IPC Low Density)
pins: 1 SCLK (in) "Serial Clock Input for Data Transfers to and from the ADC. The SCLK has a Schmitttriggered input, making the interface suitable for opto-isolated applications. The serial clock can be continuous with all data transmitted in (See Datasheet)", 2 ~{CS} (in) "Chip Select Input. This is an active low logic input used to select the ADC. C\S\ can be used to select the ADC in systems with more than one device on the serial bus or as a frame synchronization signal in communicating (See Datasheet)", 3 AIN(+) (in) "Analog Input. AIN(+) is the positive terminal of the fully differential analog input.", 4 AIN(-) (in) "Analog Input. AIN(-) is the negative terminal of the fully differential analog input.", 5 REFIN(+) (in) "Positive Reference Input. REFIN(+) can lie anywhere between VDD and GND + 0.1 V. The nominal reference voltage (REFIN(+) -REFIN(-)) is 2.5 V, but the part functions with a reference from 0.1 V to VDD.", 6 REFIN(-) (in) "Negative Reference Input. This reference input can lie anywhere between GND and VDD - 0.1 V.", 7 GND (power) "Ground Reference Point.", 8 VDD (power) "Supply Voltage, 2.5 V to 5.25 V.", 9 DOUT/~{RDY} (hiz) "Serial Data Output/Data Ready Output. DOUT/R\D\Y\ serves a dual purpose . It functions as a serial data output pin to access the output shift register of the ADC. The output shift register can contain data from any of the (See Datasheet)", 10 DIN (in) "Serial Data Input to the Input Shift Register on the ADC. Data in this shift register is transferred to the control registers within the ADC, the register selection bits of the communications register identifying the (See Datasheet)"

## AD7791BRMZ
designator U?
Single 24-Bit Low Power Sigma-Delta Analog-to-Digital Converter with Serial, SPI Interface, 120SPS, -40 to +105 degC, RM-10, Pb-Free, Tube; Generic Part Number: AD7791; Manufacturer: Analog Devices; PartNumber: AD7791BRMZ; Resolution (Bits): 24; Channels: 1; Throughput Rate (SPS): 120; Interface: Ser, SPI; DatasheetVersion: Rev.0; PackageVersion: May-2005; PackageReference: RM-10; PackageDescription: 10-Lead Mini Small Outline Package [MSOP]; Supplier 1: Digi-Key; Supplier Part Number 1: AD7791BRMZ-ND; Supplier 2: Farnell; Supplier Part Number 2: 1581942; Supplier 3: Newark; Supplier Part Number 3: 19M0896; Supplier 4: Mouser; Supplier Part Number 4: 584-AD7791BRMZ; RoHS: Y; Packing: Tube; Mounting Technology: Surface Mount; ComponentLink1Description: Manufacturer URL; ComponentLink1URL: http://www.analog.com/en/index.html; ComponentLink2Description: Datasheet; ComponentLink2URL: http://www.analog.com/static/imported-files/data_sheets/AD7791.pdf; ComponentLink3Description: Package Specification; ComponentLink3URL: http://www.analog.com/static/imported-files/packages/PKG_PDF/MSOP%28RM%29/RM_10.pdf; ComponentLink4Description: Product URL; ComponentLink4URL: http://www.analog.com/en/analog-to-digital-converters/ad-converters/ad7791/products/product.html
footprint RM-10_N (TSSOP, 10-Leads, Body 3x3mm, Pitch 0.5mm, IPC Medium Density)
footprint RM-10_L (TSSOP, 10-Leads, Body 3x3mm, Pitch 0.5mm, IPC High Density)
footprint RM-10_M (TSSOP, 10-Leads, Body 3x3mm, Pitch 0.5mm, IPC Low Density)
pins: 1 SCLK (in) "Serial Clock Input for Data Transfers to and from the ADC. The SCLK has a Schmitttriggered input, making the interface suitable for opto-isolated applications. The serial clock can be continuous with all data transmitted in (See Datasheet)", 2 ~{CS} (in) "Chip Select Input. This is an active low logic input used to select the ADC. C\S\ can be used to select the ADC in systems with more than one device on the serial bus or as a frame synchronization signal in communicating (See Datasheet)", 3 AIN(+) (in) "Analog Input. AIN(+) is the positive terminal of the fully differential analog input.", 4 AIN(-) (in) "Analog Input. AIN(-) is the negative terminal of the fully differential analog input.", 5 REFIN(+) (in) "Positive Reference Input. REFIN(+) can lie anywhere between VDD and GND + 0.1 V. The nominal reference voltage (REFIN(+) -REFIN(-)) is 2.5 V, but the part functions with a reference from 0.1 V to VDD.", 6 REFIN(-) (in) "Negative Reference Input. This reference input can lie anywhere between GND and VDD - 0.1 V.", 7 GND (power) "Ground Reference Point.", 8 VDD (power) "Supply Voltage, 2.5 V to 5.25 V.", 9 DOUT/~{RDY} (hiz) "Serial Data Output/Data Ready Output. DOUT/R\D\Y\ serves a dual purpose . It functions as a serial data output pin to access the output shift register of the ADC. The output shift register can contain data from any of the (See Datasheet)", 10 DIN (in) "Serial Data Input to the Input Shift Register on the ADC. Data in this shift register is transferred to the control registers within the ADC, the register selection bits of the communications register identifying the (See Datasheet)"